# Altium schematic symbol library ADXL357.SchLib: 1 symbol
Pins are listed as number, name and electrical type; pins without a type are passive.

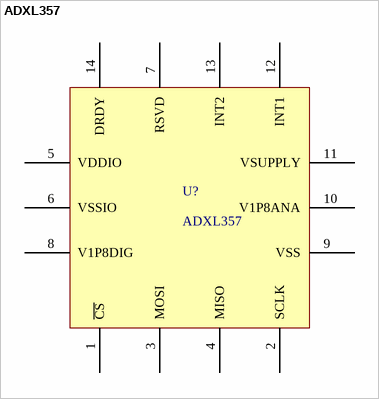
[diagram p0: symbol ADXL357]

## ADXL357
designator U?
footprint LCCS127P605X560X220-14N (LCC, 14-Pins, Body 6.05x5.60mmx2.20mm, Pitch 1.27mm, IPC Medium Density)
pins: 1 ~{CS}, 2 SCLK, 3 MOSI, 4 MISO, 5 VDDIO, 6 VSSIO, 7 RSVD, 8 V1P8DIG, 9 VSS, 10 V1P8ANA, 11 VSUPPLY, 12 INT1, 13 INT2, 14 DRDY